# EAGLE library part SN74LV4051 (library 1)
Multiplexer 8-Channel Analog Multiplexer/Demultiplexer
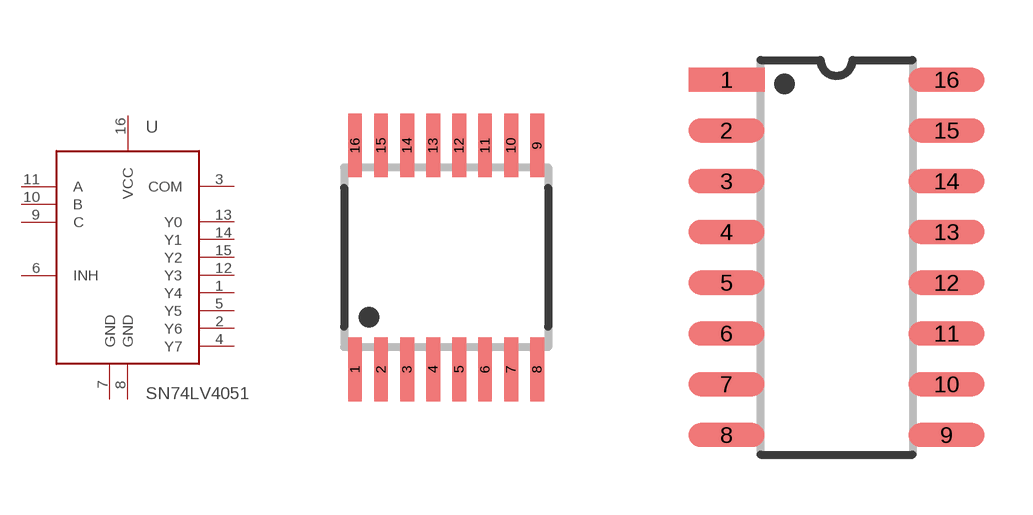
[diagram p9: symbol with the pads of TSSOP-16; footprints TSSOP-16, SOIC-16]

Designator prefix U

## SN74LV4051APW  [TSSOP-16]
1  Y4
2  Y6
3  COM
4  Y7
5  Y5
6  INH
7  GND
8  GND
9  C
10  B
11  A
12  Y3
13  Y0
14  Y1
15  Y2
16  VCC

## SN74LV4051ADR  [SOIC-16]
Pads as for TSSOP-16

## Footprint TSSOP-16 (pad centres in mm)
smd 0.35 x 1.6: 1 -2.275,-2.8; 2 -1.625,-2.8; 3 -0.975,-2.8; 4 -0.325,-2.8; 5 0.325,-2.8; 6 0.975,-2.8; 7 1.625,-2.8; 8 2.275,-2.8; 9 2.275,2.8; 10 1.625,2.8; 11 0.975,2.8; 12 0.325,2.8; 13 -0.325,2.8; 14 -0.975,2.8; 15 -1.625,2.8; 16 -2.275,2.8

## Footprint SOIC-16 (pad centres in mm)
SOIC-16
smd 1.9 x 0.6: 1 -2.75,4.445; 2 -2.75,3.175; 3 -2.75,1.905; 4 -2.75,0.635; 5 -2.75,-0.635; 6 -2.75,-1.905; 7 -2.75,-3.175; 8 -2.75,-4.445; 9 2.75,-4.445; 10 2.75,-3.175; 11 2.75,-1.905; 12 2.75,-0.635; 13 2.75,0.635; 14 2.75,1.905; 15 2.75,3.175; 16 2.75,4.445